# Altium schematic symbol library AP3428DN.Schlib: 1 symbol
Pins are listed as number, name and electrical type; pins without a type are passive.

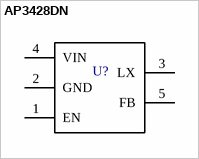
[diagram p0: symbol AP3428DN]

## AP3428DN
designator U?  (value not drawn)
REG, SW Buck Adj, 1A, 1.5MHz
pins: 1 EN, 2 GND, 3 LX, 4 VIN, 5 FB